# EAGLE library part MATRIX5X7-S (library chuong)
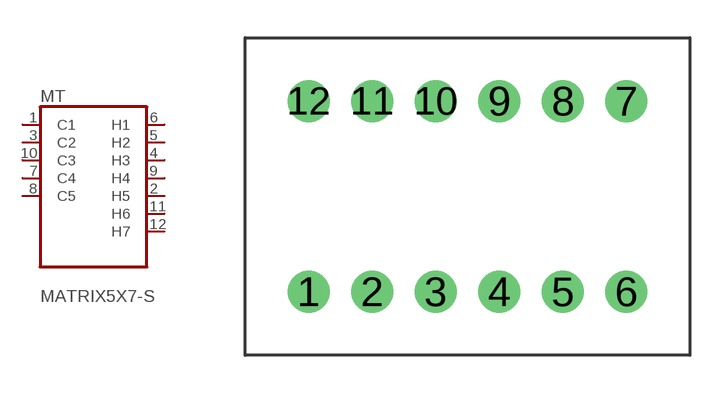
[diagram p73: symbol with the pads of MATRIX-5X7-S; footprint MATRIX-5X7-S]

Designator prefix MT

## MATRIX5X7-S  [MATRIX-5X7-S]
1  C1  in
2  H5  out
3  C2  in
4  H3  out
5  H2  out
6  H1  out
7  C4  in
8  C5  in
9  H4  out
10  C3  in
11  H6  out
12  H7  out

## Footprint MATRIX-5X7-S (pad centres in mm)
drill 0.813 pad 1.676 round: 1 -6.35,-3.81; 2 -3.81,-3.81; 3 -1.27,-3.81; 4 1.27,-3.81; 5 3.81,-3.81; 6 6.35,-3.81; 7 6.35,3.81; 8 3.81,3.81; 9 1.27,3.81; 10 -1.27,3.81; 11 -3.81,3.81; 12 -6.35,3.81